# Altium schematic symbol library AX_Altium_v2.3.SchLib: 297 symbols (part 3 of 3)
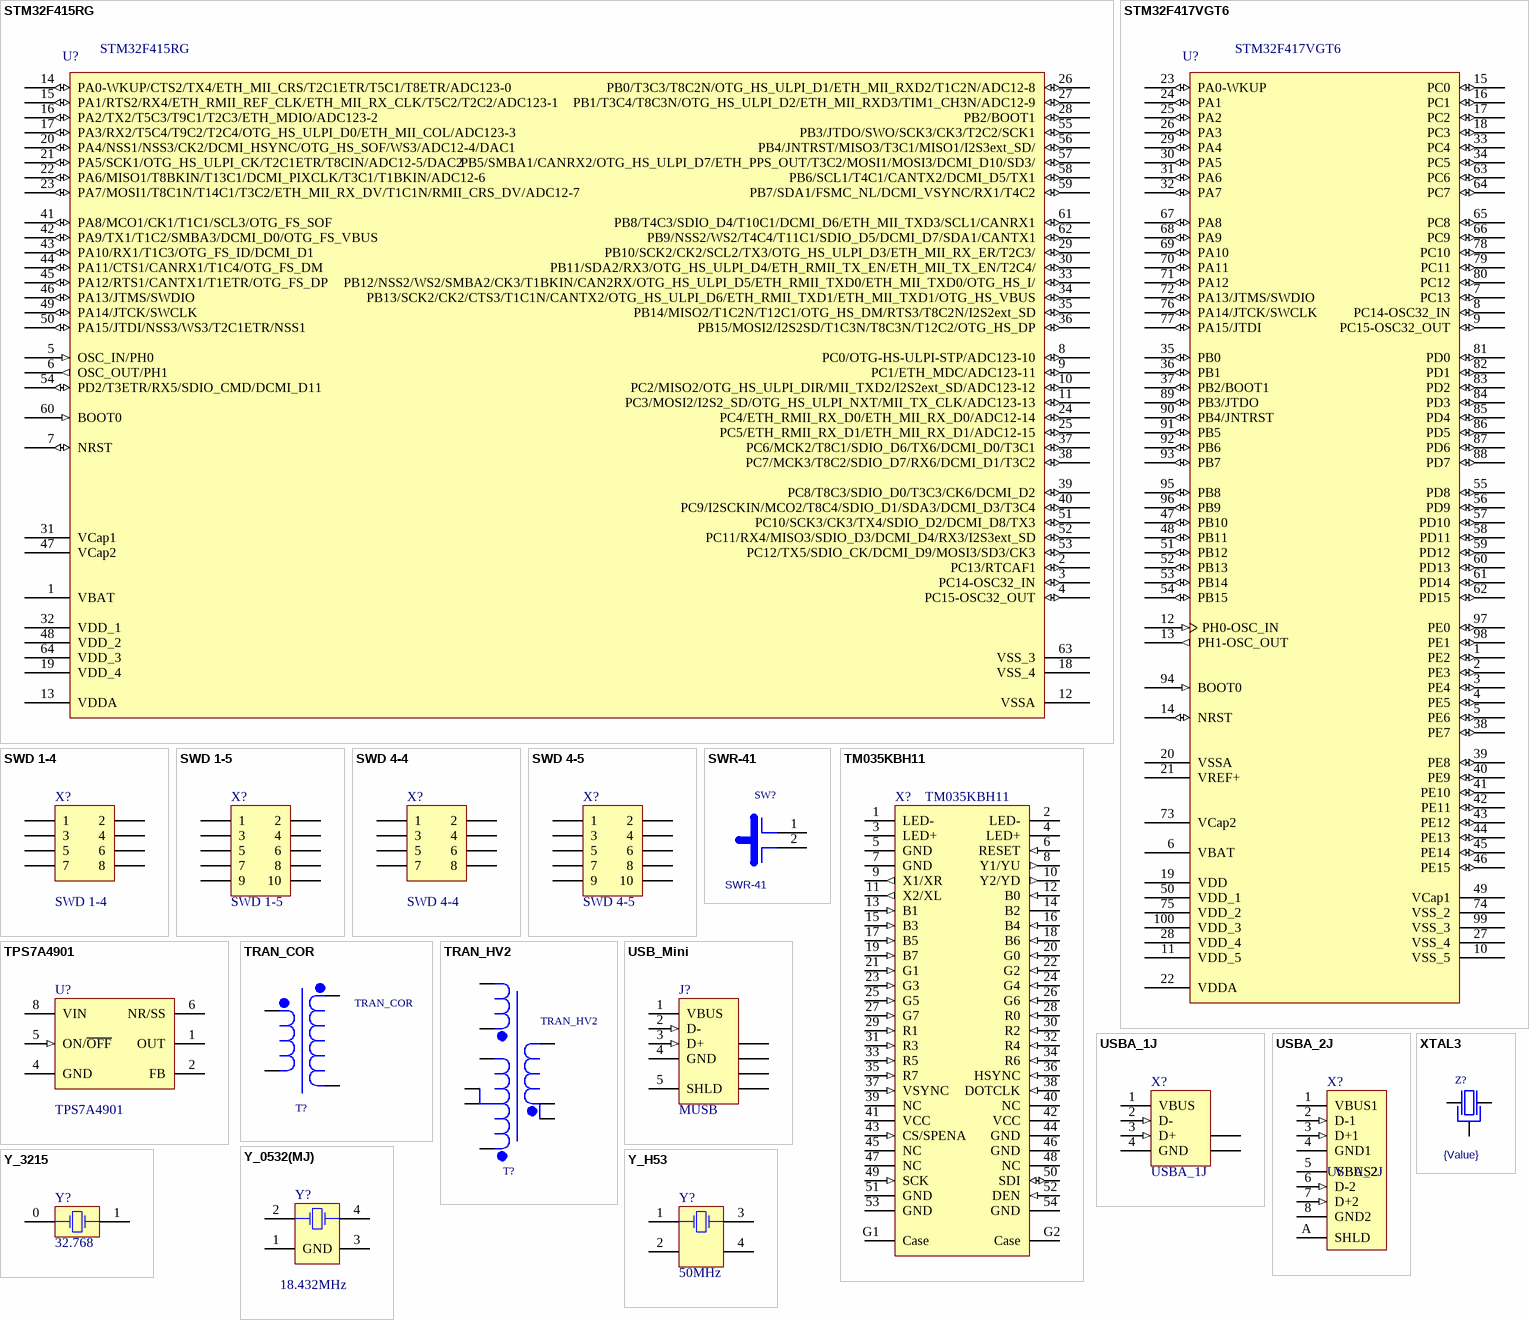
[diagram p11: symbols STM32F415RG to Y_H53]

## STM32F415RG
designator U?
Our STM32 Display IC; Published: 30-May-2008; DatasheetVersion: rev6, Mar-2008; PackageVersion: Mar-2008; PackageReference: LQFP64; Publisher: Altium Limited; PackageDescription: 64-Pin Low-Profile Quad Flat Pack, 10 x 10 mm Body, 0.5 mm Pitch (LQFP64); ComponentLink1Description: Manufacturer Link; ComponentLink1URL: www.st.com/stm32; ComponentLink2Description: Datasheet; ComponentLink2URL: http://www.st.com/stonline/products/literature/ds/13586.pdf
footprint LQFP64 (Thin QFP, 64-Leads, Body 10x10mm, Pitch 0.5mm, IPC Low Density)
pins: 1 VBAT (power), 2 PC13/RTCAF1 (io), 3 PC14-OSC32_IN (io), 4 PC15-OSC32_OUT (io), 5 OSC_IN/PH0 (in), 6 OSC_OUT/PH1 (out), 7 NRST (io), 8 PC0/OTG-HS-ULPI-STP/ADC123-10 (io), 9 PC1/ETH_MDC/ADC123-11 (io), 10 PC2/MISO2/OTG_HS_ULPI_DIR/MII_TXD2/I2S2ext_SD/ADC123-12 (io), 11 PC3/MOSI2/I2S2_SD/OTG_HS_ULPI_NXT/MII_TX_CLK/ADC123-13 (io), 12 VSSA (power), 13 VDDA (power), 14 PA0-WKUP/CTS2/TX4/ETH_MII_CRS/T2C1ETR/T5C1/T8ETR/ADC123-0 (io), 15 PA1/RTS2/RX4/ETH_RMII_REF_CLK/ETH_MII_RX_CLK/T5C2/T2C2/ADC123-1 (io), 16 PA2/TX2/T5C3/T9C1/T2C3/ETH_MDIO/ADC123-2 (io), 17 PA3/RX2/T5C4/T9C2/T2C4/OTG_HS_ULPI_D0/ETH_MII_COL/ADC123-3 (io), 18 VSS_4 (power), 19 VDD_4 (power), 20 PA4/NSS1/NSS3/CK2/DCMI_HSYNC/OTG_HS_SOF/WS3/ADC12-4/DAC1 (io), 21 PA5/SCK1/OTG_HS_ULPI_CK/T2C1ETR/T8CIN/ADC12-5/DAC2 (io), 22 PA6/MISO1/T8BKIN/T13C1/DCMI_PIXCLK/T3C1/T1BKIN/ADC12-6 (io), 23 PA7/MOSI1/T8C1N/T14C1/T3C2/ETH_MII_RX_DV/T1C1N/RMII_CRS_DV/ADC12-7 (io), 24 PC4/ETH_RMII_RX_D0/ETH_MII_RX_D0/ADC12-14 (io), 25 PC5/ETH_RMII_RX_D1/ETH_MII_RX_D1/ADC12-15 (io), 26 PB0/T3C3/T8C2N/OTG_HS_ULPI_D1/ETH_MII_RXD2/T1C2N/ADC12-8 (io), 27 PB1/T3C4/T8C3N/OTG_HS_ULPI_D2/ETH_MII_RXD3/TIM1_CH3N/ADC12-9 (io), 28 PB2/BOOT1 (io), 29 PB10/SCK2/CK2/SCL2/TX3/OTG_HS_ULPI_D3/ETH_MII_RX_ER/T2C3/ (io), 30 PB11/SDA2/RX3/OTG_HS_ULPI_D4/ETH_RMII_TX_EN/ETH_MII_TX_EN/T2C4/ (io), 31 VCap1 (power), 32 VDD_1 (power), 33 PB12/NSS2/WS2/SMBA2/CK3/T1BKIN/CAN2RX/OTG_HS_ULPI_D5/ETH_RMII_TXD0/ETH_MII_TXD0/OTG_HS_I/ (io), 34 PB13/SCK2/CK2/CTS3/T1C1N/CANTX2/OTG_HS_ULPI_D6/ETH_RMII_TXD1/ETH_MII_TXD1/OTG_HS_VBUS (io), 35 PB14/MISO2/T1C2N/T12C1/OTG_HS_DM/RTS3/T8C2N/I2S2ext_SD (io), 36 PB15/MOSI2/I2S2SD/T1C3N/T8C3N/T12C2/OTG_HS_DP (io), 37 PC6/MCK2/T8C1/SDIO_D6/TX6/DCMI_D0/T3C1 (io), 38 PC7/MCK3/T8C2/SDIO_D7/RX6/DCMI_D1/T3C2 (io), 39 PC8/T8C3/SDIO_D0/T3C3/CK6/DCMI_D2 (io), 40 PC9/I2SCKIN/MCO2/T8C4/SDIO_D1/SDA3/DCMI_D3/T3C4 (io), 41 PA8/MCO1/CK1/T1C1/SCL3/OTG_FS_SOF (io), 42 PA9/TX1/T1C2/SMBA3/DCMI_D0/OTG_FS_VBUS (io), 43 PA10/RX1/T1C3/OTG_FS_ID/DCMI_D1 (io), 44 PA11/CTS1/CANRX1/T1C4/OTG_FS_DM (io), 45 PA12/RTS1/CANTX1/T1ETR/OTG_FS_DP (io), 46 PA13/JTMS/SWDIO (io), 47 VCap2 (power), 48 VDD_2 (power), 49 PA14/JTCK/SWCLK (io), 50 PA15/JTDI/NSS3/WS3/T2C1ETR/NSS1 (io), 51 PC10/SCK3/CK3/TX4/SDIO_D2/DCMI_D8/TX3 (io), 52 PC11/RX4/MISO3/SDIO_D3/DCMI_D4/RX3/I2S3ext_SD (io), 53 PC12/TX5/SDIO_CK/DCMI_D9/MOSI3/SD3/CK3 (io), 54 PD2/T3ETR/RX5/SDIO_CMD/DCMI_D11 (io), 55 PB3/JTDO/SWO/SCK3/CK3/T2C2/SCK1 (io), 56 PB4/JNTRST/MISO3/T3C1/MISO1/I2S3ext_SD/ (io), 57 PB5/SMBA1/CANRX2/OTG_HS_ULPI_D7/ETH_PPS_OUT/T3C2/MOSI1/MOSI3/DCMI_D10/SD3/ (io), 58 PB6/SCL1/T4C1/CANTX2/DCMI_D5/TX1 (io), 59 PB7/SDA1/FSMC_NL/DCMI_VSYNC/RX1/T4C2 (io), 60 BOOT0 (in), 61 PB8/T4C3/SDIO_D4/T10C1/DCMI_D6/ETH_MII_TXD3/SCL1/CANRX1 (io), 62 PB9/NSS2/WS2/T4C4/T11C1/SDIO_D5/DCMI_D7/SDA1/CANTX1 (io), 63 VSS_3 (power), 64 VDD_3 (power)

## STM32F417VGT6
designator U?
STM32 ARM-based 32-bit MCU with 64 Kbytes Flash, 100-pin LQFP, Industrial Temperature; Published: 30-May-2008; DatasheetVersion: rev6, Mar-2008; PackageVersion: Mar-2008; PackageReference: LQFP100; Publisher: Altium Limited; PackageDescription: 100-Pin Low-Profile Quad Flat Pack, 14 x 14 mm Body, 0.5 mm Pitch (LQFP100); ComponentLink1Description: Manufacturer Link; ComponentLink1URL: www.st.com/stm32; ComponentLink2Description: Datasheet; ComponentLink2URL: http://www.st.com/stonline/products/literature/ds/13587.pdf
footprint LQFP100_N (Thin QFP, 100-Leads, Body 14x14mm, Pitch 0.5mm, IPC Medium Density)
footprint LQFP100_L (Thin QFP, 100-Leads, Body 14x14mm, Pitch 0.5mm, IPC High Density)
footprint LQFP100_M (Thin QFP, 100-Leads, Body 14x14mm, Pitch 0.5mm, IPC Low Density)
pins: 1 PE2 (io), 2 PE3 (io), 3 PE4 (io), 4 PE5 (io), 5 PE6 (io), 6 VBAT (power), 7 PC13 (io), 8 PC14-OSC32_IN (io), 9 PC15-OSC32_OUT (io), 10 VSS_5 (power), 11 VDD_5 (power), 12 PH0-OSC_IN (in), 13 PH1-OSC_OUT (out), 14 NRST (io), 15 PC0 (io), 16 PC1 (io), 17 PC2 (io), 18 PC3 (io), 19 VDD (power), 20 VSSA (power), 21 VREF+ (power), 22 VDDA (power), 23 PA0-WKUP (io), 24 PA1 (io), 25 PA2 (io), 26 PA3 (io), 27 VSS_4 (power), 28 VDD_4 (power), 29 PA4 (io), 30 PA5 (io), 31 PA6 (io), 32 PA7 (io), 33 PC4 (io), 34 PC5 (io), 35 PB0 (io), 36 PB1 (io), 37 PB2/BOOT1 (io), 38 PE7 (io), 39 PE8 (io), 40 PE9 (io), 41 PE10 (io), 42 PE11 (io), 43 PE12 (io), 44 PE13 (io), 45 PE14 (io), 46 PE15 (io), 47 PB10 (io), 48 PB11 (io), 49 VCap1, 50 VDD_1 (power), 51 PB12 (io), 52 PB13 (io), 53 PB14 (io), 54 PB15 (io), 55 PD8 (io), 56 PD9 (io), 57 PD10 (io), 58 PD11 (io), 59 PD12 (io), 60 PD13 (io), 61 PD14 (io), 62 PD15 (io), 63 PC6 (io), 64 PC7 (io), 65 PC8 (io), 66 PC9 (io), 67 PA8 (io), 68 PA9 (io), 69 PA10 (io), 70 PA11 (io), 71 PA12 (io), 72 PA13/JTMS/SWDIO (io), 73 VCap2, 74 VSS_2 (power), 75 VDD_2 (power), 76 PA14/JTCK/SWCLK (io), 77 PA15/JTDI (io), 78 PC10 (io), 79 PC11 (io), 80 PC12 (io), 81 PD0 (io), 82 PD1 (io), 83 PD2 (io), 84 PD3 (io), 85 PD4 (io), 86 PD5 (io), 87 PD6 (io), 88 PD7 (io), 89 PB3/JTDO (io), 90 PB4/JNTRST (io), 91 PB5 (io), 92 PB6 (io), 93 PB7 (io), 94 BOOT0 (in), 95 PB8 (io), 96 PB9 (io), 97 PE0 (io), 98 PE1 (io), 99 VSS_3 (power), 100 VDD_3 (power)

## SWD 1-4
designator X?
4-way DIP switch
footprint SWD 1-4
pins: 1, 2, 3, 4, 5, 6, 7, 8

## SWD 1-5
designator X?
5-way DIP switch
footprint SWD 1-5
pins: 1, 2, 3, 4, 5, 6, 7, 8, 9, 10

## SWD 4-4
designator X?
4-way SMT DIP switch
footprint SWD 4-4
pins: 1, 2, 3, 4, 5, 6, 7, 8

## SWD 4-5
designator X?
5-way SMT DIP switch
footprint SWD 4-5
pins: 1, 2, 3, 4, 5, 6, 7, 8, 9, 10

## SWR-41
designator SW?
Button; Value: SWR-41
footprint SWR-41
pins: 1, 2

## TM035KBH11
designator X?
Display 320x240 3.5"
footprint AVX046240054005800 (0.5mm pitch 54 way connector fot TM035KBH11 TFT display)
pins: 1 LED-, 2 LED-, 3 LED+, 4 LED+, 5 GND, 6 RESET (in), 7 GND, 8 Y1/YU (out), 9 X1/XR (out), 10 Y2/YD (out), 11 X2/XL (out), 12 B0 (in), 13 B1 (in), 14 B2, 15 B3 (in), 16 B4 (in), 17 B5 (in), 18 B6 (in), 19 B7 (in), 20 G0 (in), 21 G1 (in), 22 G2 (in), 23 G3 (in), 24 G4 (in), 25 G5 (in), 26 G6 (in), 27 G7 (in), 28 R0 (in), 29 R1 (in), 30 R2 (in), 31 R3 (in), 32 R4 (in), 33 R5 (in), 34 R6 (in), 35 R7 (in), 36 HSYNC (in), 37 VSYNC (in), 38 DOTCLK (in), 39 NC, 40 NC, 41 VCC, 42 VCC, 43 CS/SPENA (in) "Serial Port Data Enable Signal", 44 GND, 45 NC, 46 GND, 47 NC, 48 NC, 49 SCK (in) "SPI serial clock", 50 SDI (io) "SPI serial clock", 51 GND, 52 DEN (in) "Data enable signal", 53 GND "SPI serial data io", 54 GND "SPI serial data io", G1 Case "SPI serial data io", G2 Case "SPI serial data io"

## TPS7A4901
designator U?
Ultra low noise linear power supply
footprint MSOP-8
pins: 1 OUT, 2 FB, 4 GND (power), 5 ON/~{OFF} (in), 6 NR/SS "Noise reduction pin", 8 VIN (power)

## TRAN_COR
designator T?
Value: {Value}
footprint TRAN_COR
pins: A1, A2, A3, A4

## TRAN_HV2
designator T?
Value: {Value}
footprint TRAN_HV2
pins: 1, 2, 3, 4, 5, 6, 7, 8, 9

## USB_Mini
designator J?, comment MUSB
mini USB; ContactMaterial: Copper Alloy; ContactPlating: Gold (30); PCB_Layout: Complies with manufacturer's recommendation.; DrillSize: Corresponds to nominal value.; PanelGround: Without; Published: 15-Jul-2004; DatasheetDocument: 27-Jun-2003; PackageDocument: 27-Jun-2003; PackageReference: 440247; Publisher: Altium Limited; HousingMaterial: Thermoplastic; ComponentLink1Description: Manufacturer Link; ComponentLink1URL: http://www.tycoelectronics.com/; ComponentLink2Description: Packaging Specification; ComponentLink2URL: http://ecommas.tycoelectronics.com/commerce/DocumentDelivery/DDEController?Action=showdoc&DocId=Customer+Drawing%7F440247%7FD%7Fpdf%7FEnglish%7FC_440247_D.pdf
footprint UX60-MB (Connector; USB2.0, Type B, SM; 5 Position; Right Angle)
pins: 1 VBUS (power) "Power", 2 D- (in) "-DATA", 3 D+ (in) "+DATA", 4 GND (power) "Ground", 5 SHLD "Shield", 6 SHLD "Shield", 7 SHLD "Shield", 8 SHLD "Shield", 9 SHLD "Shield"

## USBA_1J
designator X?
USB 1.1, Right Angle, Thru-Hole, Reverse Type, Receptacle, 4 Position, Black; ContactMaterial: Copper Alloy; ContactPlating: Gold Flash; TerminationLength: 2.40mm [0.094in.]; PCB_Layout: Complies with manufacturer's recommendation.; DrillSize: Corresponds to nominal value.; PanelGround: Without; Published: 15-Jul-2004; DatasheetDocument: 18-Mar-2004; PackageDocument: 18-Mar-2004; PackageReference: 440068; Publisher: Altium Limited; HousingMaterial: Glass-Filled Thermoplastic; ComponentLink1Description: Manufacturer Link; ComponentLink1URL: http://www.tycoelectronics.com/; ComponentLink2Description: Packaging Specification; ComponentLink2URL: http://ecommas.tycoelectronics.com/commerce/DocumentDelivery/DDEController?Action=showdoc&DocId=Customer+Drawing%7F440068%7FD%7Ftif%7FEnglish%7FC_440068_D.tif
footprint USBA_1J (Connector; USB1.1, Reverse Type, Thru-Hole; 4 Position; Right Angle)
pins: 1 VBUS (power) "Power", 2 D- (in) "-DATA", 3 D+ (in) "+DATA", 4 GND (power) "Ground", 5 SHLD "Shield", 6 SHLD "Shield"

## USBA_2J
designator X?
USB 1.1, Right Angle, Thru-Hole, Reverse Type, Receptacle, 4 Position, Black; ContactMaterial: Copper Alloy; ContactPlating: Gold Flash; TerminationLength: 2.40mm [0.094in.]; PCB_Layout: Complies with manufacturer's recommendation.; DrillSize: Corresponds to nominal value.; PanelGround: Without; Published: 15-Jul-2004; DatasheetDocument: 18-Mar-2004; PackageDocument: 18-Mar-2004; PackageReference: 440068; Publisher: Altium Limited; HousingMaterial: Glass-Filled Thermoplastic; ComponentLink1Description: Manufacturer Link; ComponentLink1URL: http://www.tycoelectronics.com/; ComponentLink2Description: Packaging Specification; ComponentLink2URL: http://ecommas.tycoelectronics.com/commerce/DocumentDelivery/DDEController?Action=showdoc&DocId=Customer+Drawing%7F440068%7FD%7Ftif%7FEnglish%7FC_440068_D.tif
footprint USBA-2J (Dual port USB connector)
pins: 1 VBUS1 (power) "Power", 2 D-1 (in) "-DATA", 3 D+1 (in) "+DATA", 4 GND1 (power) "Ground", 5 VBUS2 (power) "Power", 6 D-2 (in) "-DATA", 7 D+2 (in) "+DATA", 8 GND2 (power) "Ground", A SHLD (power) "Ground"

## XTAL3
designator Z?  value {Value}  (hidden comment: *)
XTAL3
footprint HC-49-S3
pins: 1, 2, 3

## Y_0532(MJ)
designator Y?, comment 18.432MHz
Crystal Oscillator; Value: 18.432MHz
footprint 0532(MJ) (Surface Mount Quartz Crystal; Body 5.0 x 3.2 mm (LxW))
pins: 1 GND, 2 OSC1, 3 GND, 4 OSC2

## Y_3215
designator Y?, comment 32.768
Crystal Oscillator; Value: 32.768
footprint x3215 (crystal oscillator 32kHz)
pins: 0 OSC1, 1 OSC2

## Y_H53
designator Y?, comment 50MHz
Quartz Generator; Value: 50MHz
footprint 05H32 (Surface Mount Quartz Generator; Body 5.0 x 3.2 mm (LxW))
pins: 1 OSC1, 2 NC, 3 OSC2, 4 NC